# Altium schematic symbol library Resistor_Library.SchLib: 1 symbol
Pins are listed as number, name and electrical type; pins without a type are passive.

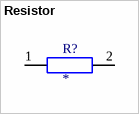
[diagram p0: symbol Resistor]

## Resistor
designator R?
footprint Resistor_0402 (0402)
pins: 1, 2